# Altium integrated library AltiumDesigner.IntLib: 10 symbols
Pins are listed as number, name and electrical type; pins without a type are passive.

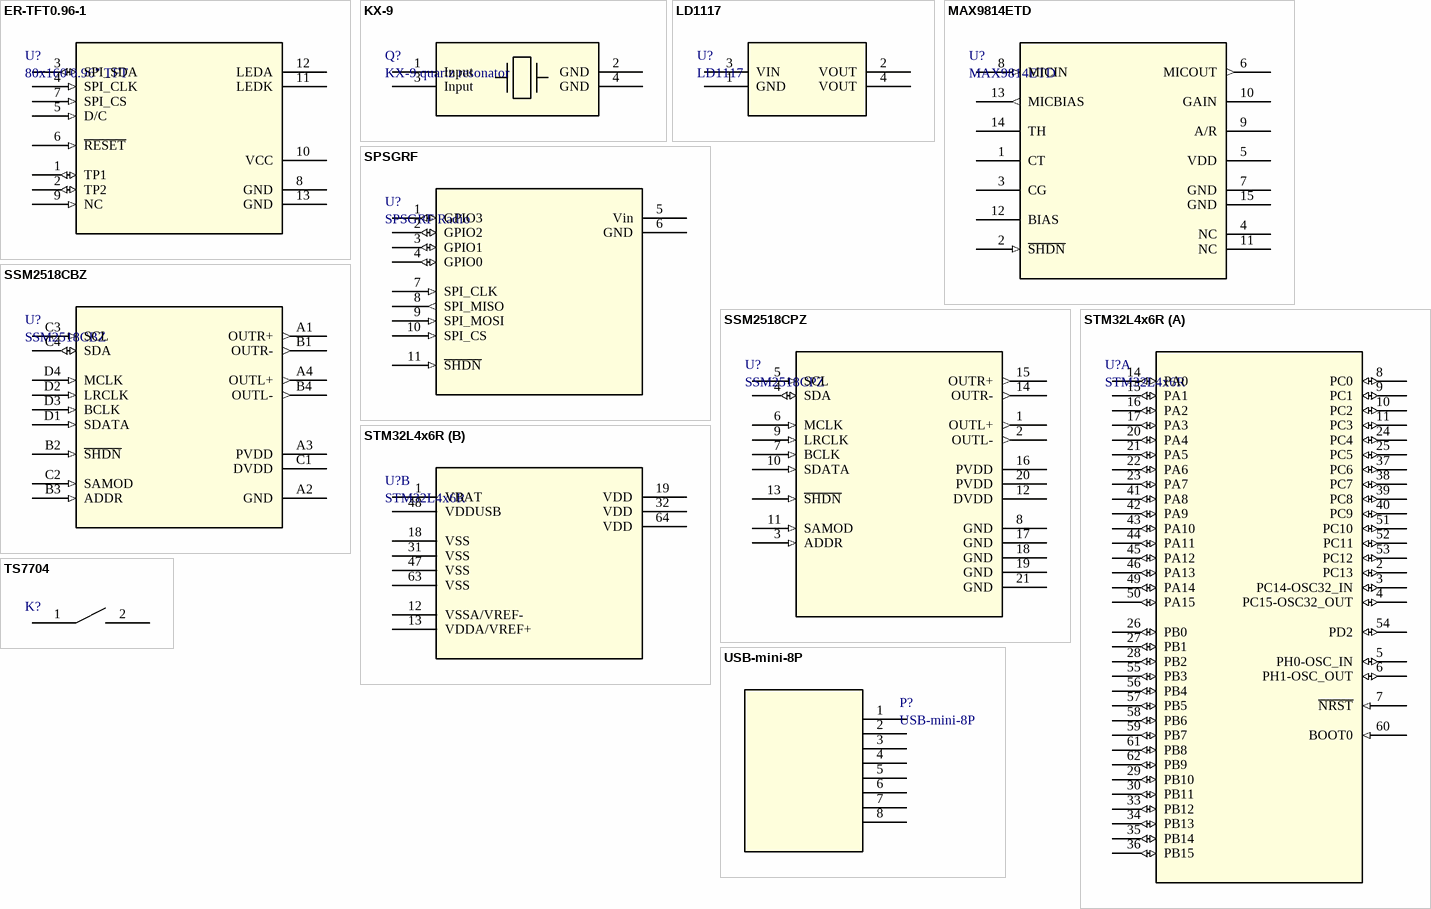
[diagram p0: symbols ER-TFT0.96-1 to USB-mini-8P]

## ER-TFT0.96-1
designator U?, comment 80x160 0.96" TFT
footprint ER-TFT0.96-1
footprint ER-TFT0.96-1-TURN
pins: 1 TP1 (io), 2 TP2 (io), 3 SPI_SDA (io), 4 SPI_CLK (in), 5 D/C (in), 6 ~{RESET} (in), 7 SPI_CS (in), 8 GND (power), 9 NC (in), 10 VCC (power), 11 LEDK (power), 12 LEDA (power), 13 GND (power)

## KX-9
designator Q?, comment KX-9 quartz resonator
footprint KX-9
pins: 1 Input, 2 GND, 3 Input, 4 GND

## LD1117
designator U?
footprint SOT223
pins: 1 GND (power), 2 VOUT (power), 3 VIN (power), 4 VOUT (power)

## MAX9814ETD
designator U?
footprint SON40P300X300X80-15N
pins: 1 CT, 2 ~{SHDN} (in), 3 CG, 4 NC, 5 VDD (power), 6 MICOUT (out), 7 GND (power), 8 MICIN (in), 9 A/R, 10 GAIN, 11 NC, 12 BIAS, 13 MICBIAS (out), 14 TH, 15 GND (power)

## SPSGRF
designator U?, comment SPSGRF Radio
footprint SPSGRF
pins: 1 GPIO3 (io), 2 GPIO2 (io), 3 GPIO1 (io), 4 GPIO0 (io), 5 Vin (power), 6 GND (power), 7 SPI_CLK (in), 8 SPI_MISO (out), 9 SPI_MOSI (in), 10 SPI_CS (in), 11 ~{SHDN} (in)

## SSM2518CBZ
designator U?
footprint WLCSP16
pins: A1 OUTR+ (out), A2 GND (power), A3 PVDD (power), A4 OUTL+ (out), B1 OUTR- (out), B2 ~{SHDN} (in), B3 ADDR (in), B4 OUTL- (out), C1 DVDD (power), C2 SAMOD (in), C3 SCL (in), C4 SDA (io), D1 SDATA (in), D2 LRCLK (in), D3 BCLK (in), D4 MCLK (in)

## SSM2518CPZ
designator U?
footprint QFN50P400X400X100-21N
pins: 1 OUTL+ (out), 2 OUTL- (out), 3 ADDR (in), 4 SDA (io), 5 SCL (in), 6 MCLK (in), 7 BCLK (in), 8 GND (power), 9 LRCLK (in), 10 SDATA (in), 11 SAMOD (in), 12 DVDD (power), 13 ~{SHDN} (in), 14 OUTR- (out), 15 OUTR+ (out), 16 PVDD (power), 17 GND (power), 18 GND (power), 19 GND (power), 20 PVDD (power), 21 GND (power)

## STM32L4x6R
designator U?
Manufacturer_Part_Number: stm32l486rx; Vendor: ST Microelectronics; Copyright: Copyright (C) 2016 Accelerated Designs. All rights reserved; RefDes: RefDes; Type: DEV; Value: Value
footprint LQFP64-10x10mm
part A pins: 2 PC13 (io), 3 PC14-OSC32_IN (io), 4 PC15-OSC32_OUT (io), 5 PH0-OSC_IN (io), 6 PH1-OSC_OUT (io), 7 ~{NRST} (in), 8 PC0 (io), 9 PC1 (io), 10 PC2 (io), 11 PC3 (io), 14 PA0 (io), 15 PA1 (io), 16 PA2 (io), 17 PA3 (io), 20 PA4 (io), 21 PA5 (io), 22 PA6 (io), 23 PA7 (io), 24 PC4 (io), 25 PC5 (io), 26 PB0 (io), 27 PB1 (io), 28 PB2 (io), 29 PB10 (io), 30 PB11 (io), 33 PB12 (io), 34 PB13 (io), 35 PB14 (io), 36 PB15 (io), 37 PC6 (io), 38 PC7 (io), 39 PC8 (io), 40 PC9 (io), 41 PA8 (io), 42 PA9 (io), 43 PA10 (io), 44 PA11 (io), 45 PA12 (io), 46 PA13 (io), 49 PA14 (io), 50 PA15 (io), 51 PC10 (io), 52 PC11 (io), 53 PC12 (io), 54 PD2 (io), 55 PB3 (io), 56 PB4 (io), 57 PB5 (io), 58 PB6 (io), 59 PB7 (io), 60 BOOT0 (in), 61 PB8 (io), 62 PB9 (io)
part B pins: 1 VBAT (power), 12 VSSA/VREF- (power), 13 VDDA/VREF+ (power), 18 VSS (power), 19 VDD (power), 31 VSS (power), 32 VDD (power), 47 VSS (power), 48 VDDUSB (power), 63 VSS (power), 64 VDD (power)

## TS7704
designator K?, comment TS7704 IP67 tact button  (value not drawn)
footprint TS7704
pins: 1 Input, 2 Input

## USB-mini-8P
designator P?
footprint USB-mini-8P
pins: 1, 2, 3, 4, 5, 6, 7, 8